# EAGLE library part TVS_ARRAY (library kmod-discretesemi)
Based off the Diodes Inc D1213A-04S http://www.diodes.com/datasheets/D1213A-04S.pdf
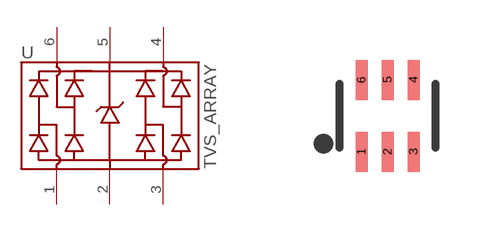
[diagram p1: symbol with the pads of SOT363; footprint SOT363]

Designator prefix -

## TVS_ARRAY  [SOT363]
1  CH1
2  VN
3  CH2
4  CH3
5  VP
6  CH4

## Footprint SOT363 (pad centres in mm)
SOT363 Copied from somewhere; seemed to work well, but made pads longer anyway.
smd 0.3 x 1: 1 -0.65,-0.9; 2 0,-0.9; 3 0.65,-0.9; 4 0.65,0.9; 5 0,0.9; 6 -0.65,0.9